# Altium footprint library 15_to_28_Pin.PcbLib: 44 footprints (part 1 of 3)
Each footprint in its own frame and in the unit in brackets; x right, y up, seen from the top. Pads: shape width x height; smd on the part's side, far side on the other; paste and mask are expansions set on the pad; w line width, h text height; cw(c..) or ccw(c..) is an arc to the next point about the centre after c.
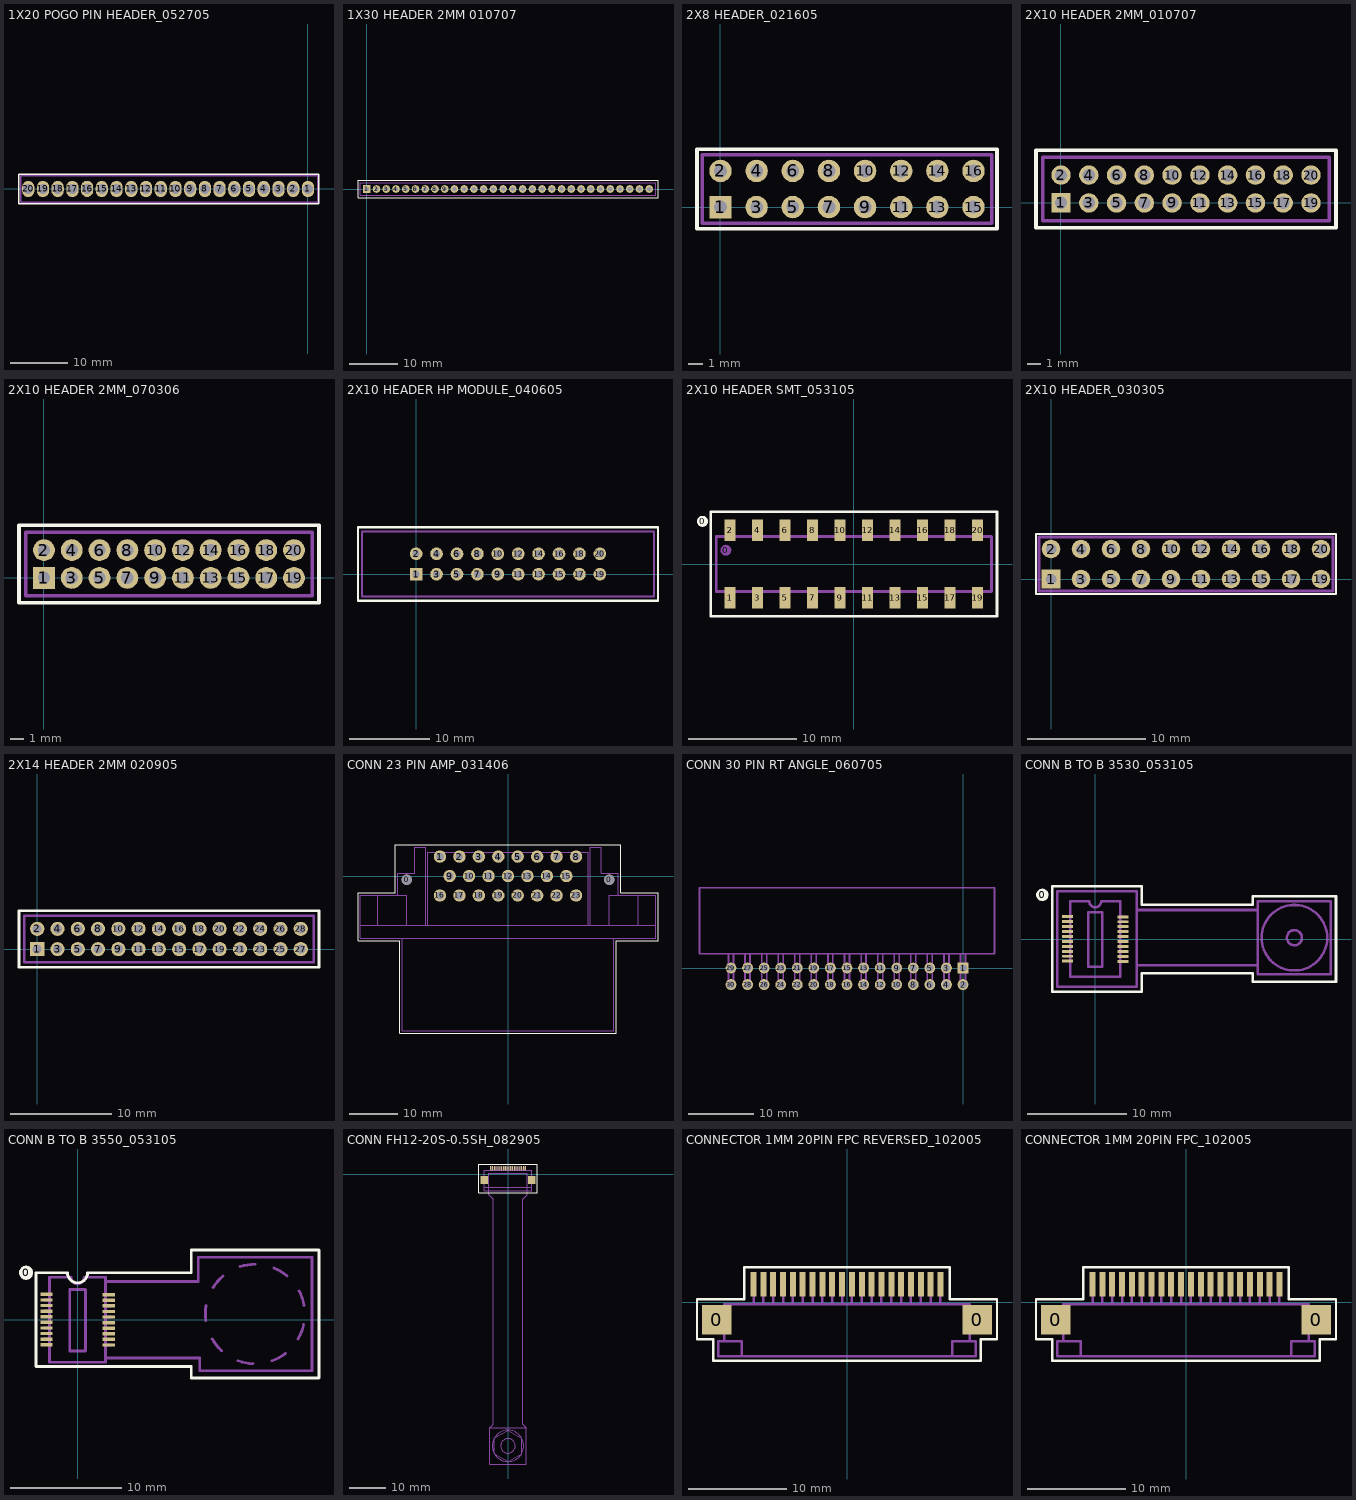
[diagram p0: the footprints below, top view; thin cyan lines are the x and y axes]

## 1X20 POGO PIN HEADER_052705 [mil] "TH"
height 350
pads (20):
  oval 83x110 hole 68: 1(0,0) 2(-100,0) 3(-200,0) 4(-300,0) 5(-400,0) 6(-500,0) 7(-600,0) 8(-700,0) 9(-800,0) 10(-900,0) 11(-1000,0) 12(-1100,0) 13(-1200,0) 14(-1300,0) 15(-1400,0) 16(-1499.99,0.99) 17(-1600,0) 18(-1700,0) 19(-1800,0) 20(-1900,0)
Top Overlay:
  lines w10: -1962.51,-100 -1962.51,100 -1900,100 75,100 75,-100 -1962.51,-100
Assembly Outline:
  lines w10: -1950,-90 -1950,90 65,90 65,-90 -1950,-90
Assembly Designator:
  text ".Designator" at -995,120 h40
Assembly Comment:
  text ".Comment" at -1020,-160 h40

## 1X30 HEADER 2MM 010707 [mil] "TH"
height 250
pads (30):
  rect 62x62 hole 35: 1(0,0)
  round 62 hole 35: 2(78.74,0) 3(157.48,0) 4(236.22,0) 5(314.96,0) 6(393.7,0) 7(472.44,0) 8(551.18,0) 9(629.92,0) 10(708.66,0) 11(787.4,0) 12(866.14,0) 13(944.88,0) 14(1023.62,0) 15(1102.36,0) 16(1181.1,0) 17(1259.84,0) 18(1338.58,0) 19(1417.32,0) 20(1496.06,0) 21(1574.8,0) 22(1653.54,0) 23(1732.28,0) 24(1811.02,0) 25(1889.76,0) 26(1968.5,0) 27(2047.24,0) 28(2125.98,0)
  round 62.01 hole 35: 29(2204.72,0) 30(2283.46,0)
Top Overlay:
  lines w10: -70.87,-70.87 287.4,-70.87 2354.33,-70.87 ; -70.87,-70.87 -70.87,70.87 ; -70.87,-70.87 -70.87,70.87 ; -70.87,70.87 287.4,70.87 2354.33,70.87 ; 2354.33,-70.87 2354.33,70.87 ; 2354.33,-70.87 2354.33,70.87
Assembly Outline:
  lines w10: -51.18,-51.18 -51.18,-39.37 -51.18,51.18 ; -51.18,-51.18 346.46,-51.18 2334.65,-51.18 ; -51.18,-51.18 -51.18,39.37 -51.18,51.18 ; -51.18,51.18 346.46,51.18 2334.65,51.18 ; 2334.65,-51.18 2334.65,-39.37 2334.65,51.18 ; 2334.65,-51.18 2334.65,39.37 2334.65,51.18 ; -12,-12 12,-12 12,11 -12,11 -12,-12 ; 66.74,-12 90.74,-12 90.74,11 66.74,11 66.74,-12 ; 145.48,-12 169.48,-12 169.48,11 145.48,11 145.48,-12 ; 224.22,-12 248.22,-12 248.22,11 224.22,11 224.22,-12 ; 302.96,-12 326.96,-12 326.96,11 302.96,11 302.96,-12 ; 381.7,-12 405.7,-12 405.7,11 381.7,11 381.7,-12 ; 460.44,-12 484.44,-12 484.44,11 460.44,11 460.44,-12 ; 539.18,-12 563.18,-12 563.18,11 539.18,11 539.18,-12 ; 617.92,-12 641.92,-12 641.92,11 617.92,11 617.92,-12 ; 696.66,-12 720.66,-12 720.66,11 696.66,11 696.66,-12 ; 775.4,-12 799.4,-12 799.4,11 775.4,11 775.4,-12 ; 854.14,-12 878.14,-12 878.14,11 854.14,11 854.14,-12 ; 932.88,-12 956.88,-12 956.88,11 932.88,11 932.88,-12 ; 1011.62,-12 1035.62,-12 1035.62,11 1011.62,11 1011.62,-12 ; 1090.36,-12 1114.36,-12 1114.36,11 1090.36,11 1090.36,-12 ; 1169.1,-12 1193.1,-12 1193.1,11 1169.1,11 1169.1,-12 ; 1247.84,-12 1271.84,-12 1271.84,11 1247.84,11 1247.84,-12 ; 1326.58,-12 1350.58,-12 1350.58,11 1326.58,11 1326.58,-12 ; 1405.32,-12 1429.32,-12 1429.32,11 1405.32,11 1405.32,-12 ; 1484.06,-12 1508.06,-12 1508.06,11 1484.06,11 1484.06,-12 ; 1562.8,-12 1586.8,-12 1586.8,11 1562.8,11 1562.8,-12 ; 1641.54,-12 1665.54,-12 1665.54,11 1641.54,11 1641.54,-12 ; 1720.28,-12 1744.28,-12 1744.28,11 1720.28,11 1720.28,-12 ; 1799.02,-12 1823.02,-12 1823.02,11 1799.02,11 1799.02,-12 ; 1877.76,-12 1901.76,-12 1901.76,11 1877.76,11 1877.76,-12 ; 1956.5,-12 1980.5,-12 1980.5,11 1956.5,11 1956.5,-12 ; 2035.24,-12 2059.24,-12 2059.24,11 2035.24,11 2035.24,-12 ; 2113.98,-12 2137.98,-12 2137.98,11 2113.98,11 2113.98,-12 ; 2192.72,-12 2216.72,-12 2216.72,11 2192.72,11 2192.72,-12 ; 2271.46,-12 2295.46,-12 2295.46,11 2271.46,11 2271.46,-12
Assembly Designator:
  text ".Designator" at 1114.17,-19.69 h40
Assembly Comment:
  text ".Comment" at 1011.81,-110.24 h40

## 2X8 HEADER_021605 [mil] "TH"
height 350
pads (16):
  rect 62x62 hole 35: 1(0,0)
  round 62 hole 35: 2(0,100) 3(100,0) 4(100,100) 5(200,0) 6(200,100) 7(300,0) 8(300,100) 9(400,0) 10(400,100) 11(500,0) 12(500,100) 13(600,0) 14(600,100) 15(700,0) 16(700,100)
Top Overlay:
  lines w10: -65,-60 -65,160 40,160 765,160 765,-60 -65,-60
Assembly Outline:
  rectangle: 691,-9 709,9
  rectangle: 691,91 709,109
  rectangle: 591,-9 609,9
  rectangle: 591,91 609,109
  rectangle: 491,-9 509,9
  rectangle: 491,91 509,109
  rectangle: 391,-9 409,9
  rectangle: 391,91 409,109
  rectangle: 291,-9 309,9
  rectangle: 291,91 309,109
  rectangle: 191,-9 209,9
  rectangle: 191,91 209,109
  rectangle: 91,-9 109,9
  rectangle: 91,91 109,109
  rectangle: -9,91 9,109
  rectangle: -9,-9 9,9
  lines w10: -50,-45 -50,0 -50,145 750,145 750,-45 -50,-45
Assembly Designator:
  text ".Designator" at 261,32 h40
Assembly Comment:
  text ".Comment" at -21,-100 h40

## 2X10 HEADER 2MM_010707 [mil] "TH"
height 250
pads (20):
  rect 55x55 hole 35: 1(0,0)
  round 55 hole 35: 2(0,78.74) 3(78.74,0) 4(78.74,78.74) 5(157.48,0) 6(157.48,78.74) 7(236.22,0) 8(236.22,78.74) 9(314.96,0) 10(314.96,78.74) 11(393.7,0) 12(393.7,78.74) 13(472.44,0) 14(472.44,78.74) 15(551.18,0) 16(551.18,78.74) 17(629.92,0) 18(629.92,78.74) 19(708.66,0) 20(708.66,78.74)
Top Overlay:
  lines w10: -70.87,-70.87 779.53,-70.87 779.53,149.61 736.22,149.61 -70.87,149.61 -70.87,-70.87
Assembly Outline:
  lines w10: -51.18,-51.18 -51.18,39.37 -51.18,129.92 31.5,129.92 677.16,129.92 759.84,129.92 759.84,39.37 759.84,-51.18 673.23,-51.18 35.43,-51.18 -51.18,-51.18 ; -12,-12 12,-12 12,11 -12,11 -12,-12 ; -12,66.74 12,66.74 12,89.74 -12,89.74 -12,66.74 ; 66.74,-12 90.74,-12 90.74,11 66.74,11 66.74,-12 ; 66.74,66.74 90.74,66.74 90.74,89.74 66.74,89.74 66.74,66.74 ; 145.48,-12 169.48,-12 169.48,11 145.48,11 145.48,-12 ; 145.48,66.74 169.48,66.74 169.48,89.74 145.48,89.74 145.48,66.74 ; 224.22,-12 248.22,-12 248.22,11 224.22,11 224.22,-12 ; 224.22,66.74 248.22,66.74 248.22,89.74 224.22,89.74 224.22,66.74 ; 302.96,-12 326.96,-12 326.96,11 302.96,11 302.96,-12 ; 302.96,66.74 326.96,66.74 326.96,89.74 302.96,89.74 302.96,66.74 ; 381.7,-12 405.7,-12 405.7,11 381.7,11 381.7,-12 ; 381.7,66.74 405.7,66.74 405.7,89.74 381.7,89.74 381.7,66.74 ; 460.44,-12 484.44,-12 484.44,11 460.44,11 460.44,-12 ; 460.44,66.74 484.44,66.74 484.44,89.74 460.44,89.74 460.44,66.74 ; 539.18,-12 563.18,-12 563.18,11 539.18,11 539.18,-12 ; 539.18,66.74 563.18,66.74 563.18,89.74 539.18,89.74 539.18,66.74 ; 617.92,-12 641.92,-12 641.92,11 617.92,11 617.92,-12 ; 617.92,66.74 641.92,66.74 641.92,89.74 617.92,89.74 617.92,66.74 ; 696.66,-12 720.66,-12 720.66,11 696.66,11 696.66,-12 ; 696.66,66.74 720.66,66.74 720.66,89.74 696.66,89.74 696.66,66.74
Assembly Designator:
  text ".Designator" at -3,26 h40
Assembly Comment:
  text ".Comment" at -6,-110 h40

## 2X10 HEADER 2MM_070306 [mil] "TH"
height 250
pads (20):
  rect 62x62 hole 35: 1(0,0)
  round 62 hole 35: 2(0,78.74) 3(78.74,0) 4(78.74,78.74) 5(157.48,0) 6(157.48,78.74) 7(236.22,0) 8(236.22,78.74) 9(314.96,0) 10(314.96,78.74) 11(393.7,0) 12(393.7,78.74) 13(472.44,0) 14(472.44,78.74) 15(551.18,0) 16(551.18,78.74) 17(629.92,0) 18(629.92,78.74) 19(708.66,0) 20(708.66,78.74)
Top Overlay:
  lines w10: -70.87,-70.87 -70.87,149.61 736.22,149.61 779.53,149.61 779.53,-70.87 -70.87,-70.87
Assembly Outline:
  lines w10: -51.18,-51.18 35.43,-51.18 673.23,-51.18 759.84,-51.18 759.84,39.37 759.84,129.92 677.16,129.92 31.5,129.92 -51.18,129.92 -51.18,39.37 -51.18,-51.18 ; -12,-12 -12,11 12,11 12,-12 -12,-12 ; -12,66.74 -12,89.74 12,89.74 12,66.74 -12,66.74 ; 66.74,-12 66.74,11 90.74,11 90.74,-12 66.74,-12 ; 66.74,66.74 66.74,89.74 90.74,89.74 90.74,66.74 66.74,66.74 ; 145.48,-12 145.48,11 169.48,11 169.48,-12 145.48,-12 ; 145.48,66.74 145.48,89.74 169.48,89.74 169.48,66.74 145.48,66.74 ; 224.22,-12 224.22,11 248.22,11 248.22,-12 224.22,-12 ; 224.22,66.74 224.22,89.74 248.22,89.74 248.22,66.74 224.22,66.74 ; 302.96,-12 302.96,11 326.96,11 326.96,-12 302.96,-12 ; 302.96,66.74 302.96,89.74 326.96,89.74 326.96,66.74 302.96,66.74 ; 381.7,-12 381.7,11 405.7,11 405.7,-12 381.7,-12 ; 381.7,66.74 381.7,89.74 405.7,89.74 405.7,66.74 381.7,66.74 ; 460.44,-12 460.44,11 484.44,11 484.44,-12 460.44,-12 ; 460.44,66.74 460.44,89.74 484.44,89.74 484.44,66.74 460.44,66.74 ; 539.18,-12 539.18,11 563.18,11 563.18,-12 539.18,-12 ; 539.18,66.74 539.18,89.74 563.18,89.74 563.18,66.74 539.18,66.74 ; 617.92,-12 617.92,11 641.92,11 641.92,-12 617.92,-12 ; 617.92,66.74 617.92,89.74 641.92,89.74 641.92,66.74 617.92,66.74 ; 696.66,-12 696.66,11 720.66,11 720.66,-12 696.66,-12 ; 696.66,66.74 696.66,89.74 720.66,89.74 720.66,66.74 696.66,66.74
Assembly Designator:
  text ".Designator" at 290,20 h40
Assembly Comment:
  text ".Comment" at 10,-120 h40

## 2X10 HEADER HP MODULE_040605 [mil] "TH"
height 280
pads (20):
  rect 62x62 hole 35: 1(0,0)
  round 62 hole 35: 2(0,100) 3(100,0) 4(100,100) 5(200,0) 6(200,100) 7(300,0) 8(300,100) 9(400,0) 10(400,100) 11(500,0) 12(500,100) 13(600,0) 14(600,100) 15(700,0) 16(700,100) 17(800,0) 18(800,100) 19(900,0) 20(900,100)
Top Overlay:
  lines w10: -285,-130 -240,-130 1185,-130 1185,50 1185,230 1140,230 -285,230 -285,50 -285,-130
Assembly Outline:
  lines w10: -265,-110 -265,50 -265,210 1165,210 1165,50 1165,-110 -265,-110
Assembly Designator:
  text ".Designator" at 355,60 h40
Assembly Comment:
  text ".Comment" at 355,0 h40

## 2X10 HEADER SMT_053105 [mil] "SMT"
height 350
pads (22):
  round 40 on Top Overlay: 0(-550,155)
  round 40 on Mech1: 0(-465,50)
  rect 40x78 smd: 1(-450,-122.5) 2(-450,122.5) 3(-350,-122.5) 4(-350,122.5) 5(-250,-122.5) 6(-250,122.5) 7(-150,-122.5) 8(-150,122.5) 9(-50,-122.5) 10(-50,122.5) 11(50,-122.5) 12(50,122.5) 13(150,-122.5) 14(150,122.5) 15(250,-122.5) 16(250,122.5) 17(350,-122.5) 18(350,122.5) 19(450,-122.5) 20(450,122.5)
Top Overlay:
  lines w10: -520,-190 500,-190 520,-190 520,0 520,190 500,190 -520,190 -520,0 -520,-190
Assembly Outline:
  lines w10: -500,-100 -500,100 500,100 500,-100 -500,-100 ; -460,-140 -450,-140 -440,-140 -440,-100 -460,-100 -460,-140 ; -460,100 -440,100 -440,140 -450,140 -460,140 -460,100 ; -360,-140 -350,-140 -340,-140 -340,-100 -360,-100 -360,-140 ; -360,100 -340,100 -340,140 -350,140 -360,140 -360,100 ; -260,-140 -250,-140 -240,-140 -240,-100 -260,-100 -260,-140 ; -260,100 -240,100 -240,140 -250,140 -260,140 -260,100 ; -160,-140 -150,-140 -140,-140 -140,-100 -160,-100 -160,-140 ; -160,100 -140,100 -140,140 -150,140 -160,140 -160,100 ; -60,-140 -50,-140 -40,-140 -40,-100 -60,-100 -60,-140 ; -60,100 -40,100 -40,140 -50,140 -60,140 -60,100 ; 40,-140 50,-140 60,-140 60,-100 40,-100 40,-140 ; 40,100 60,100 60,140 50,140 40,140 40,100 ; 140,-140 150,-140 160,-140 160,-100 140,-100 140,-140 ; 140,100 160,100 160,140 150,140 140,140 140,100 ; 240,-140 250,-140 260,-140 260,-100 240,-100 240,-140 ; 240,100 260,100 260,140 250,140 240,140 240,100 ; 340,-140 350,-140 360,-140 360,-100 340,-100 340,-140 ; 340,100 360,100 360,140 350,140 340,140 340,100 ; 440,-140 450,-140 460,-140 460,-100 440,-100 440,-140 ; 440,100 460,100 460,140 450,140 440,140 440,100
Assembly Designator:
  text ".Designator" at -35.43,27.56 h40
Assembly Comment:
  text ".Comment" at -114.17,-35.43 h40

## 2X10 HEADER_030305 [mil] "TH"
height 350
pads (20):
  rect 62x62 hole 35: 1(0,0)
  round 62 hole 35: 2(0,100) 3(100,0) 4(100,100) 5(200,0) 6(200,100) 7(300,0) 8(300,100) 9(400,0) 10(400,100) 11(500,0) 12(500,100) 13(600,0) 14(600,100) 15(700,0) 16(700,100) 17(800,0) 18(800,100) 19(900,0) 20(900,100)
Top Overlay:
  lines w8: -50,-50 -50,150 25,150 950,150 950,-50 25,-50 -50,-50
Assembly Outline:
  lines w8: -12,-13 13,-13 13,12 -12,12 -12,-13 ; -12,87 -12,112 13,112 13,87 -12,87 ; 88,-13 113,-13 113,12 88,12 88,-13 ; 88,87 113,87 113,112 88,112 88,87 ; 188,-13 213,-13 213,12 188,12 188,-13 ; 188,87 213,87 213,112 188,112 188,87 ; 288,-13 313,-13 313,12 288,12 288,-13 ; 288,87 313,87 313,112 288,112 288,87 ; 388,-13 413,-13 413,12 388,12 388,-13 ; 388,87 413,87 413,112 388,112 388,87 ; 488,-13 513,-13 513,12 488,12 488,-13 ; 488,87 513,87 513,112 488,112 488,87 ; 588,-13 613,-13 613,12 588,12 588,-13 ; 588,87 613,87 613,112 588,112 588,87 ; 688,-13 713,-13 713,12 688,12 688,-13 ; 688,87 713,87 713,112 688,112 688,87 ; 788,-13 813,-13 813,12 788,12 788,-13 ; 788,87 813,87 813,112 788,112 788,87 ; 888,-13 913,-13 913,12 888,12 888,-13 ; 888,87 913,87 913,112 888,112 888,87
  lines w10: -40.01,-40 -40.01,140 939.99,140 939.99,-40 -40.01,-40
Assembly Designator:
  text ".Designator" at 20,33 h40
Assembly Comment:
  text ".Comment" at 8,-101 h40

## 2X14 HEADER 2MM 020905 [mil] "TH"
height 250
pads (28):
  rect 55x55 hole 35: 1(0,0)
  round 55 hole 35: 2(0,78.74) 3(78.74,0) 4(78.74,78.74) 5(157.48,0) 6(157.48,78.74) 7(236.22,0) 8(236.22,78.74) 9(314.96,0) 10(314.96,78.74) 11(393.7,0) 12(393.7,78.74) 13(472.44,0) 14(472.44,78.74) 15(551.18,0) 16(551.18,78.74) 17(629.92,0) 18(629.92,78.74) 19(708.66,0) 20(708.66,78.74) 21(787.4,0) 22(787.4,78.74) 23(866.14,0) 24(866.14,78.74) 25(944.88,0) 26(944.88,78.74) 27(1023.62,0) 28(1023.62,78.74)
Top Overlay:
  lines w10: -70.87,-70.87 1094.49,-70.87 1094.49,149.61 736.22,149.61 -70.87,149.61 -70.87,-70.87
Assembly Outline:
  lines w10: -51.18,-51.18 -51.18,39.37 -51.18,129.92 31.5,129.92 677.16,129.92 1074.8,129.92 1074.8,39.37 1074.8,-51.18 673.23,-51.18 35.43,-51.18 -51.18,-51.18 ; -12,-12 12,-12 12,11 -12,11 -12,-12 ; -12,66.74 12,66.74 12,89.74 -12,89.74 -12,66.74 ; 66.74,-12 90.74,-12 90.74,11 66.74,11 66.74,-12 ; 66.74,66.74 90.74,66.74 90.74,89.74 66.74,89.74 66.74,66.74 ; 145.48,-12 169.48,-12 169.48,11 145.48,11 145.48,-12 ; 145.48,66.74 169.48,66.74 169.48,89.74 145.48,89.74 145.48,66.74 ; 224.22,-12 248.22,-12 248.22,11 224.22,11 224.22,-12 ; 224.22,66.74 248.22,66.74 248.22,89.74 224.22,89.74 224.22,66.74 ; 302.96,-12 326.96,-12 326.96,11 302.96,11 302.96,-12 ; 302.96,66.74 326.96,66.74 326.96,89.74 302.96,89.74 302.96,66.74 ; 381.7,-12 405.7,-12 405.7,11 381.7,11 381.7,-12 ; 381.7,66.74 405.7,66.74 405.7,89.74 381.7,89.74 381.7,66.74 ; 460.44,-12 484.44,-12 484.44,11 460.44,11 460.44,-12 ; 460.44,66.74 484.44,66.74 484.44,89.74 460.44,89.74 460.44,66.74 ; 539.18,-12 563.18,-12 563.18,11 539.18,11 539.18,-12 ; 539.18,66.74 563.18,66.74 563.18,89.74 539.18,89.74 539.18,66.74 ; 617.92,-12 641.92,-12 641.92,11 617.92,11 617.92,-12 ; 617.92,66.74 641.92,66.74 641.92,89.74 617.92,89.74 617.92,66.74 ; 696.66,-12 720.66,-12 720.66,11 696.66,11 696.66,-12 ; 696.66,66.74 720.66,66.74 720.66,89.74 696.66,89.74 696.66,66.74 ; 775.4,-12 799.4,-12 799.4,11 775.4,11 775.4,-12 ; 775.4,66.74 799.4,66.74 799.4,89.74 775.4,89.74 775.4,66.74 ; 854.14,-12 878.14,-12 878.14,11 854.14,11 854.14,-12 ; 854.14,66.74 878.14,66.74 878.14,89.74 854.14,89.74 854.14,66.74 ; 932.88,-12 956.88,-12 956.88,11 932.88,11 932.88,-12 ; 932.88,66.74 956.88,66.74 956.88,89.74 932.88,89.74 932.88,66.74 ; 1011.62,-12 1035.62,-12 1035.62,11 1011.62,11 1011.62,-12 ; 1011.62,66.74 1035.62,66.74 1035.62,89.74 1011.62,89.74 1011.62,66.74
Assembly Designator:
  text ".Designator" at -3,26 h40
Assembly Comment:
  text ".Comment" at -6,-110 h40

## CONN 23 PIN AMP_031406 [mm] "TH"
height 31.75
pads (25):
  round 2.083 hole 2.083: 0(-20.828,-0.762) 0(20.828,-0.762)
  round 2.54 hole 1.575: 1(-14,4) 2(-10,4) 3(-6,4) 4(-2,4) 5(2,4) 6(6,4) 7(10,4) 8(14,4) 9(-12,0) 10(-8,0) 11(-4,0) 12(0,0) 13(4,0) 14(8,0) 15(12,0) 16(-14,-4) 17(-10,-4) 18(-6,-4) 19(-2,-4) 20(2,-4) 21(6,-4) 22(10,-4) 23(14,-4)
Top Overlay:
  lines w0.254: -30.861,-13.335 -30.861,-3.429 -23.241,-3.429 -23.241,6.477 0,6.477 23.241,6.477 23.241,-3.429 30.861,-3.429 30.861,-13.335 22.225,-13.335 22.225,-32.385 0,-32.385 -22.225,-32.385 -22.225,-13.335 -30.861,-13.335
Assembly Outline:
  lines w0.254: -26.797,-10.096 -26.797,-4 -30.353,-4 ; -19.177,-10.096 -17.653,-10.096 ; -16.891,-10.096 -16.891,5.906 -19.177,5.906 -19.177,0.572 -22.733,0.572 -22.733,-4 -30.353,-4 ; 16.891,-10.096 16.891,5.906 19.177,5.906 19.177,0.572 22.733,0.572 22.733,-4 30.353,-4 ; 17.653,-10.096 19.177,-10.096 ; 26.797,-10.096 26.797,-4 30.353,-4 ; -30.353,-10.096 -30.353,-4 ; -30.353,-10.096 -20.828,-10.096 -20.828,-4 -30.353,-4 ; -30.353,-10.096 -30.353,-12.763 0,-12.763 ; -30.353,-10.096 0,-10.096 ; 0,-12.763 -21.717,-12.763 -21.717,-31.813 0,-31.813 21.717,-31.813 21.717,-12.763 0,-12.763 ; 0,-12.763 30.353,-12.763 30.353,-10.096 ; 0,-10.096 -16.51,-10.096 -16.51,4.89 0,4.89 16.51,4.89 16.51,-10.096 0,-10.096 ; 0,-10.096 30.353,-10.096 ; 30.353,-10.096 30.353,-4 ; 30.353,-10.096 20.828,-10.096 20.828,-4 30.353,-4
Assembly Designator:
  text ".Designator" at -2.032,-8.636 h1.02
Assembly Comment:
  text ".Comment" at -5.588,-6.731 h1.02

## CONN 30 PIN RT ANGLE_060705 [mil] "TH"
height 300
pads (30):
  rect 65x65 hole 45: 1(0,0)
  round 65 hole 45: 2(0,-100) 3(-100,0) 4(-100,-100) 5(-200,0) 6(-200,-100) 7(-300,0) 8(-300,-100) 9(-400,0) 10(-400,-100) 11(-500,0) 12(-500,-100) 13(-600,0) 14(-600,-100) 15(-700,0) 16(-700,-100) 17(-800,0) 18(-800,-100) 19(-900,0) 20(-900,-100) 21(-1000,0) 22(-1000,-100) 23(-1100,0) 24(-1100,-100) 25(-1200,0) 26(-1200,-100) 27(-1300,0) 28(-1300,-100) 29(-1400,0) 30(-1400,-100)
Bottom Overlay:
  lines w10: -1605,70 -1450,70 -1450,-150 50,-150 50,70 205,70 205,500 -1605,500 -1605,70
Assembly Outline:
  lines w10: -1415,0 -1385,0 ; -1400,-100 -1415,-100 ; -1315,0 -1285,0 ; -1300,-100 -1315,-100 ; -1215,0 -1185,0 ; -1200,-100 -1215,-100 ; -1115,0 -1085,0 ; -1100,-100 -1115,-100 ; -1015,0 -985,0 ; -1000,-100 -1015,-100 ; -915,0 -885,0 ; -900,-100 -915,-100 ; -815,0 -785,0 ; -800,-100 -815,-100 ; -715,0 -685,0 ; -715,485 190,485 190,85 -700,85 -1590,85 -1590,485 -685,485 ; -700,-100 -715,-100 ; -615,0 -585,0 ; -600,-100 -615,-100 ; -515,0 -485,0 ; -500,-100 -515,-100 ; -415,0 -385,0 ; -400,-100 -415,-100 ; -315,0 -285,0 ; -300,-100 -315,-100 ; -215,0 -185,0 ; -200,-100 -215,-100 ; -115,0 -85,0 ; -100,-100 -115,-100 ; -15,0 15,0 ; 0,-100 -15,-100 ; -1415,-100 -1385,-100 -1385,85 -1415,85 -1415,-100 ; -1315,-100 -1285,-100 -1285,85 -1315,85 -1315,-100 ; -1215,-100 -1185,-100 -1185,85 -1215,85 -1215,-100 ; -1115,-100 -1085,-100 -1085,85 -1115,85 -1115,-100 ; -1015,-100 -985,-100 -985,85 -1015,85 -1015,-100 ; -915,-100 -885,-100 -885,85 -915,85 -915,-100 ; -815,-100 -785,-100 -785,85 -815,85 -815,-100 ; -715,-100 -685,-100 -685,85 -715,85 -715,-100 ; -615,-100 -585,-100 -585,85 -615,85 -615,-100 ; -515,-100 -485,-100 -485,85 -515,85 -515,-100 ; -415,-100 -385,-100 -385,85 -415,85 -415,-100 ; -315,-100 -285,-100 -285,85 -315,85 -315,-100 ; -215,-100 -185,-100 -185,85 -215,85 -215,-100 ; -115,-100 -85,-100 -85,85 -115,85 -115,-100 ; -15,-100 15,-100 15,85 -15,85 -15,-100
Assembly Designator:
  text ".Designator" at -745,-220 h40
Assembly Comment:
  text ".Comment" at -855,-275 h40

## CONN B TO B 3530_053105 [mm] "SMT FP"
height 1.15
pads (21):
  round 1.27 on Top Overlay paste+0 mask+0: 0(-5.334,4.445)
  rect 1.1x0.3 smd mask+0.051: 1(-2.778,2.263) 2(-2.778,1.763) 3(-2.778,1.263) 4(-2.778,0.763) 5(-2.778,0.263) 6(-2.778,-0.237) 7(-2.778,-0.737) 8(-2.778,-1.237) 9(-2.778,-1.737) 10(-2.778,-2.237) 11(2.778,-2.263) 12(2.778,-1.763) 13(2.778,-1.263) 14(2.778,-0.763) 15(2.778,-0.262) 16(2.778,0.238) 17(2.778,0.738) 18(2.778,1.238) 19(2.778,1.738) 20(2.778,2.238)
Top Overlay:
  lines w0.254: -4.318,-5.334 0,-5.334 4.699,-5.334 4.699,-3.429 15.875,-3.429 15.875,-4.318 24.257,-4.318 24.257,0 24.257,4.318 15.875,4.318 15.875,3.429 4.699,3.429 4.699,5.334 0,5.334 -4.318,5.334 -4.318,0 -4.318,-5.334
Assembly Outline:
  circle w0.254: c20.066,0.127 r0.762
  circle w0.254: c20.066,0.127 r3.302
  lines w0.254: -3,-1.737 -2.5,-1.737 ; -3,-1.237 -2.5,-1.237 ; -3,-0.737 -2.5,-0.737 ; -3,-0.237 -2.5,-0.237 ; -3,0.263 -2.5,0.263 ; -3,0.763 -2.5,0.763 ; -3,1.263 -2.5,1.263 ; -3,1.763 -2.5,1.763 ; -3,2.263 -2.5,2.263 ; 2.5,-2.263 3,-2.263 ; 2.5,-1.763 3,-1.763 ; 2.5,-1.263 3,-1.263 ; 2.5,-0.763 3,-0.763 ; 2.5,-0.262 3,-0.262 ; 2.5,0.238 3,0.238 ; 2.5,0.738 3,0.738 ; 2.5,1.238 3,1.238 ; 2.5,1.738 3,1.738 ; 2.5,2.238 3,2.238 ; 16.383,-2.667 4.191,-2.667 4.191,2.921 ; 4.191,2.921 16.383,2.921 16.383,0.127 ; 4.191,2.921 4.191,4.826 ; 4.191,4.826 4.191,-4.826 -3.81,-4.826 -3.81,0 -3.81,4.826 4.191,4.826 ; 16.383,0.127 16.383,3.81 ; 16.383,0.127 16.383,-3.556 23.749,-3.556 23.749,3.81 16.383,3.81 ; 16.383,0.127 16.383,3.81 ; -2.5,-3.8 -2.5,3.8 -0.6,3.8 ccw(c0,3.8) 0.6,3.8 2.5,3.8 2.5,0 2.5,-3.8 -2.5,-3.8 ; -0.7,-2.8 -0.7,2.7 0.7,2.7 0.7,0 0.7,-2.8 -0.7,-2.8
Assembly Designator:
  text ".Designator" at -0.889,6.096 h1.02
Assembly Comment:
  text ".Comment" at -1.651,-6.858 h1.02

## CONN B TO B 3550_053105 [mm] "SMT FP"
height 1.15
pads (21):
  round 1.27 on Top Overlay paste+0 mask+0: 0(-4.6,4.2)
  rect 1.1x0.3 smd mask+0.051: 1(-2.778,2.263) 2(-2.778,1.763) 3(-2.778,1.263) 4(-2.778,0.763) 5(-2.778,0.263) 6(-2.778,-0.237) 7(-2.778,-0.737) 8(-2.778,-1.237) 9(-2.778,-1.737) 10(-2.778,-2.237) 11(2.778,-2.263) 12(2.778,-1.763) 13(2.778,-1.263) 14(2.778,-0.763) 15(2.778,-0.262) 16(2.778,0.238) 17(2.778,0.738) 18(2.778,1.238) 19(2.778,1.738) 20(2.778,2.238)
Top Overlay:
  lines w0.254: -3.7,-4.2 -3.7,0 -3.7,4.2 -0.9,4.2 ccw(c0,4.2) 0.9,4.2 3.7,4.2 10.16,4.2 10.16,6.223 21.59,6.223 21.59,-5.207 10.16,-5.207 10.16,-4.2 3.7,-4.2 0,-4.2 -3.7,-4.2
Assembly Outline:
  lines w0.254: -3,-1.737 -2.5,-1.737 ; -3,-1.237 -2.5,-1.237 ; -3,-0.737 -2.5,-0.737 ; -3,-0.237 -2.5,-0.237 ; -3,0.263 -2.5,0.263 ; -3,0.763 -2.5,0.763 ; -3,1.263 -2.5,1.263 ; -3,1.763 -2.5,1.763 ; -3,2.263 -2.5,2.263 ; 2.5,-3.429 10.922,-3.429 10.922,-4.572 20.955,-4.572 20.955,5.588 ; 2.5,-2.263 3,-2.263 ; 2.5,-1.763 3,-1.763 ; 2.5,-1.263 3,-1.263 ; 2.5,-0.763 3,-0.763 ; 2.5,-0.262 3,-0.262 ; 2.5,0.238 3,0.238 ; 2.5,0.738 3,0.738 ; 2.5,1.238 3,1.238 ; 2.5,1.738 3,1.738 ; 2.5,2.238 3,2.238 ; 2.5,3.429 10.795,3.429 10.795,5.588 20.955,5.588 ; 11.47,-0.084 cw(c15.875,0.508) 11.498,1.28 ; 12.026,-1.715 ccw(c15.875,0.508) 12.881,-2.777 ; 12.12,2.886 cw(c15.875,0.508) 13.018,3.913 ; 14.355,-3.669 ccw(c15.875,0.508) 15.693,-3.933 ; 14.527,4.744 cw(c15.875,0.508) 15.875,4.953 ; 15.875,5.588 20.955,5.588 ; 17.395,-3.669 ccw(c15.875,0.508) 18.59,-3.011 ; 17.565,4.619 cw(c15.875,0.508) 18.732,3.913 ; 19.724,-1.715 ccw(c15.875,0.508) 20.217,-0.443 ; 19.812,2.571 cw(c15.875,0.508) 20.252,1.28 ; -2.5,-3.8 2.5,-3.8 2.5,0 2.5,3.8 0.6,3.8 cw(c0,3.8) -0.6,3.8 -2.5,3.8 -2.5,-3.8 ; -0.7,-2.8 0.7,-2.8 0.7,0 0.7,2.7 -0.7,2.7 -0.7,-2.8
Assembly Designator:
  text ".Designator" at -0.8,4.7 h1.02
Assembly Comment:
  text ".Comment" at -1.7,-5.6 h1.02

## CONN FH12-20S-0.5SH_082905 [mm] "SM FP"
height 2
pads (22):
  rect 2x2.2 smd mask+0.038: 0(-6.55,-1.625) 0(6.55,-1.625)
  rect 0.3x1.3 smd mask+0.038: 1(-4.75,1.625) 2(-4.25,1.625) 3(-3.75,1.625) 4(-3.25,1.625) 5(-2.75,1.625) 6(-2.25,1.625) 7(-1.75,1.625) 8(-1.25,1.625) 9(-0.75,1.625) 10(-0.25,1.625) 11(0.25,1.625) 12(0.75,1.625) 13(1.25,1.625) 14(1.75,1.625) 15(2.25,1.625) 16(2.75,1.625) 17(3.25,1.625) 18(3.75,1.625) 19(4.25,1.625) 20(4.75,1.625)
Top Overlay:
  lines w0.254: -8.05,-5.045 -5,-5.045 7.95,-5.045 8.05,-5.045 8.05,2.805 7.95,2.805 -5,2.805 -8.05,2.805 -8.05,-5.045
Assembly Outline:
  circle w0.254: c-0.006,-74.697 r2
  circle w0.254: c-0.006,-74.697 r4.325
  lines w0.254: -6.55,-2.145 -7.05,-2.145 -7.05,-0.945 -6.55,-0.945 -6.55,1.055 ; -5,1.055 -6.55,1.055 ; -4.75,1.055 -4.75,1.855 ; -4.25,1.055 -4.25,1.855 ; -4.006,-13.222 -4.006,-6.947 ; -3.752,-76.836 -0.007,-78.998 ; -3.75,1.055 -3.75,1.855 ; -3.731,-76.847 -3.731,-72.522 ; -3.731,-72.547 0.015,-70.384 ; -3.25,1.055 -3.25,1.855 ; -2.75,1.055 -2.75,1.855 ; -2.25,1.055 -2.25,1.855 ; -2.081,-79.697 -5.006,-79.697 ; -1.75,1.055 -1.75,1.855 ; -1.25,1.055 -1.25,1.855 ; -0.75,1.055 -0.75,1.855 ; -0.25,1.055 -0.25,1.855 ; -0.027,-79.011 3.718,-76.848 ; -0.006,-70.397 3.74,-72.559 ; 0.25,1.055 0.25,1.855 ; 0.75,1.055 0.75,1.855 ; 1.25,1.055 1.25,1.855 ; 1.75,1.055 1.75,1.855 ; 2.069,-79.697 4.994,-79.697 ; 2.25,1.055 2.25,1.855 ; 2.75,1.055 2.75,1.855 ; 3.25,1.055 3.25,1.855 ; 3.719,-76.872 3.719,-72.547 ; 3.75,1.055 3.75,1.855 ; 3.994,-13.222 3.994,-6.947 ; 4.25,1.055 4.25,1.855 ; 4.75,1.055 4.75,1.855 ; 4.994,-74.697 4.994,-69.697 ; 5.85,-3.545 6.55,-3.545 ; 6.55,-3.945 6.55,-3.545 ; 6.55,-2.145 7.05,-2.145 7.05,-0.945 6.55,-0.945 ; -6.55,-4.545 -6.55,1.055 ; -6.55,-4.545 -6.55,-3.545 ; -6.55,-4.545 6.55,-4.545 ; -6.55,-3.545 -6.55,1.055 ; -6.55,-3.545 6.55,-3.545 ; -6.55,1.055 6.55,1.055 6.55,-3.545 ; -5.006,-79.697 -5.006,-69.697 ; -5.006,-79.697 -0.006,-79.697 4.994,-79.697 ; -5.006,-69.697 -0.006,-69.697 4.994,-69.697 ; -5.006,-69.697 -4.006,-68.697 -4.006,-68.447 -4.006,-6.947 ; -4.006,-6.947 -5.256,-5.697 -5.256,0.303 -0.006,0.303 5.244,0.303 5.244,-5.697 3.994,-6.947 ; 3.994,-6.947 3.994,-68.447 3.994,-68.697 4.994,-69.697 ; 4.994,-79.697 4.994,-69.697 ; 6.55,-4.545 6.55,-3.545 ; 6.55,-4.545 6.55,-3.545
Assembly Designator:
  text ".Designator" at -1.5,-0.75 h1.02
Assembly Comment:
  text ".Comment" at -3.775,-2.4 h1.02

## CONNECTOR 1MM 20PIN FPC REVERSED_102005 [mm] "SMT"
height 3.048
pads (22):
  rect 3x3 smd mask+0.038: 0(-13.25,-1.8) 0(13.25,-1.8)
  rect 0.61x2.489 smd mask+0.038: 1(9.5,1.8) 2(8.5,1.8) 3(7.5,1.8) 4(6.5,1.8) 5(5.5,1.8) 6(4.5,1.8) 7(3.5,1.8) 8(2.5,1.8) 9(1.5,1.8) 10(0.5,1.8) 11(-0.5,1.8) 12(-1.5,1.8) 13(-2.5,1.8) 14(-3.5,1.8) 15(-4.5,1.8) 16(-5.5,1.8) 17(-6.5,1.8) 18(-7.5,1.8) 19(-8.5,1.8) 20(-9.5,1.8)
Top Overlay:
  lines w0.254: -15.25,-3.775 -13.6,-3.775 -13.6,-5.975 0,-5.975 13.6,-5.975 13.6,-3.775 15.25,-3.775 15.25,0.3 10.425,0.3 10.425,3.55 0,3.55 -10.425,3.55 -10.425,0.3 -15.25,0.3 -15.25,-3.775
Assembly Outline:
  lines w0.254: -12.85,-4 -10.7,-4 -10.7,-5.5 -13.1,-5.5 -13.1,-4 -12.5,-4 -12.5,-2.25 ; -12.5,-5.5 12.5,-5.5 ; -9.5,-0.2 -9.5,1.8 ; -8.5,-0.2 -8.5,1.8 ; -7.5,-0.2 -7.5,1.8 ; -6.5,-0.2 -6.5,1.8 ; -1.5,-0.2 -1.5,1.8 ; -0.5,-0.2 -0.5,1.8 ; 0.5,-0.2 0.5,1.8 ; 1.5,-0.2 1.5,1.8 ; 2.5,-0.2 2.5,1.8 ; 3.5,-0.2 3.5,1.8 ; 4.5,-0.2 4.5,1.8 ; 5.5,-0.2 5.5,1.8 ; 6.5,-0.2 6.5,1.8 ; 7.5,-0.2 7.5,1.8 ; 8.5,-0.2 8.5,1.8 ; 9.5,-0.2 9.5,1.8 ; 12.85,-4 10.7,-4 10.7,-5.5 13.1,-5.5 13.1,-4 12.5,-4 12.5,-2.25 ; -12.5,-2.25 -13.8,-2.25 -13.8,-0.95 -12.5,-0.95 ; -12.5,-2.25 -12.5,-0.95 ; -12.5,-0.95 -12.5,-0.2 0,-0.2 12.5,-0.2 12.5,-0.95 ; -3.5,-0.2 -3.5,1.8 ; -3.5,-0.2 -3.5,1.8 ; -3.5,-0.2 -3.5,1.8 ; -2.5,-0.2 -2.5,1.8 ; -2.5,-0.2 -2.5,1.8 ; -2.5,-0.2 -2.5,1.8 ; 12.5,-2.25 13.8,-2.25 13.8,-0.95 12.5,-0.95 ; 12.5,-2.25 12.5,-0.95 ; -5.5,-0.2 -5.5,1.8 -5.5,-0.2 ; -4.5,-0.2 -4.5,1.8 -4.5,-0.2
Assembly Designator:
  text ".Designator" at -1.651,-2.794 h1.02
Assembly Comment:
  text ".Comment" at -4.953,-4.445 h1.02

## CONNECTOR 1MM 20PIN FPC_102005 [mm] "SMT"
height 3.048
pads (22):
  rect 3x3 smd mask+0.038: 0(-13.25,-1.8) 0(13.25,-1.8)
  rect 0.61x2.489 smd mask+0.038: 1(-9.5,1.8) 2(-8.5,1.8) 3(-7.5,1.8) 4(-6.5,1.8) 5(-5.5,1.8) 6(-4.5,1.8) 7(-3.5,1.8) 8(-2.5,1.8) 9(-1.5,1.8) 10(-0.5,1.8) 11(0.5,1.8) 12(1.5,1.8) 13(2.5,1.8) 14(3.5,1.8) 15(4.5,1.8) 16(5.5,1.8) 17(6.5,1.8) 18(7.5,1.8) 19(8.5,1.8) 20(9.5,1.8)
Top Overlay:
  lines w0.254: -15.25,-3.775 -13.6,-3.775 -13.6,-5.975 0,-5.975 13.6,-5.975 13.6,-3.775 15.25,-3.775 15.25,0.3 10.425,0.3 10.425,3.55 0,3.55 -10.425,3.55 -10.425,0.3 -15.25,0.3 -15.25,-3.775
Assembly Outline:
  lines w0.254: -12.85,-4 -10.7,-4 -10.7,-5.5 -13.1,-5.5 -13.1,-4 -12.5,-4 -12.5,-2.25 ; -12.5,-5.5 12.5,-5.5 ; -9.5,-0.2 -9.5,1.8 ; -8.5,-0.2 -8.5,1.8 ; -7.5,-0.2 -7.5,1.8 ; -6.5,-0.2 -6.5,1.8 ; -1.5,-0.2 -1.5,1.8 ; -0.5,-0.2 -0.5,1.8 ; 0.5,-0.2 0.5,1.8 ; 1.5,-0.2 1.5,1.8 ; 2.5,-0.2 2.5,1.8 ; 3.5,-0.2 3.5,1.8 ; 4.5,-0.2 4.5,1.8 ; 5.5,-0.2 5.5,1.8 ; 6.5,-0.2 6.5,1.8 ; 7.5,-0.2 7.5,1.8 ; 8.5,-0.2 8.5,1.8 ; 9.5,-0.2 9.5,1.8 ; 12.85,-4 10.7,-4 10.7,-5.5 13.1,-5.5 13.1,-4 12.5,-4 12.5,-2.25 ; -12.5,-2.25 -13.8,-2.25 -13.8,-0.95 -12.5,-0.95 ; -12.5,-2.25 -12.5,-0.95 ; -12.5,-0.95 -12.5,-0.2 0,-0.2 12.5,-0.2 12.5,-0.95 ; -3.5,-0.2 -3.5,1.8 ; -3.5,-0.2 -3.5,1.8 ; -3.5,-0.2 -3.5,1.8 ; -2.5,-0.2 -2.5,1.8 ; -2.5,-0.2 -2.5,1.8 ; -2.5,-0.2 -2.5,1.8 ; 12.5,-2.25 13.8,-2.25 13.8,-0.95 12.5,-0.95 ; 12.5,-2.25 12.5,-0.95 ; -5.5,-0.2 -5.5,1.8 -5.5,-0.2 ; -4.5,-0.2 -4.5,1.8 -4.5,-0.2
Assembly Designator:
  text ".Designator" at -1.651,-2.794 h1.02
Assembly Comment:
  text ".Comment" at -4.953,-4.445 h1.02